# Altium footprint library ESP32.PcbLib: 11 footprints
Each footprint in its own frame and in the unit in brackets; x right, y up, seen from the top. Pads: shape width x height; smd on the part's side, far side on the other; paste and mask are expansions set on the pad; w line width, h text height; cw(c..) or ccw(c..) is an arc to the next point about the centre after c.
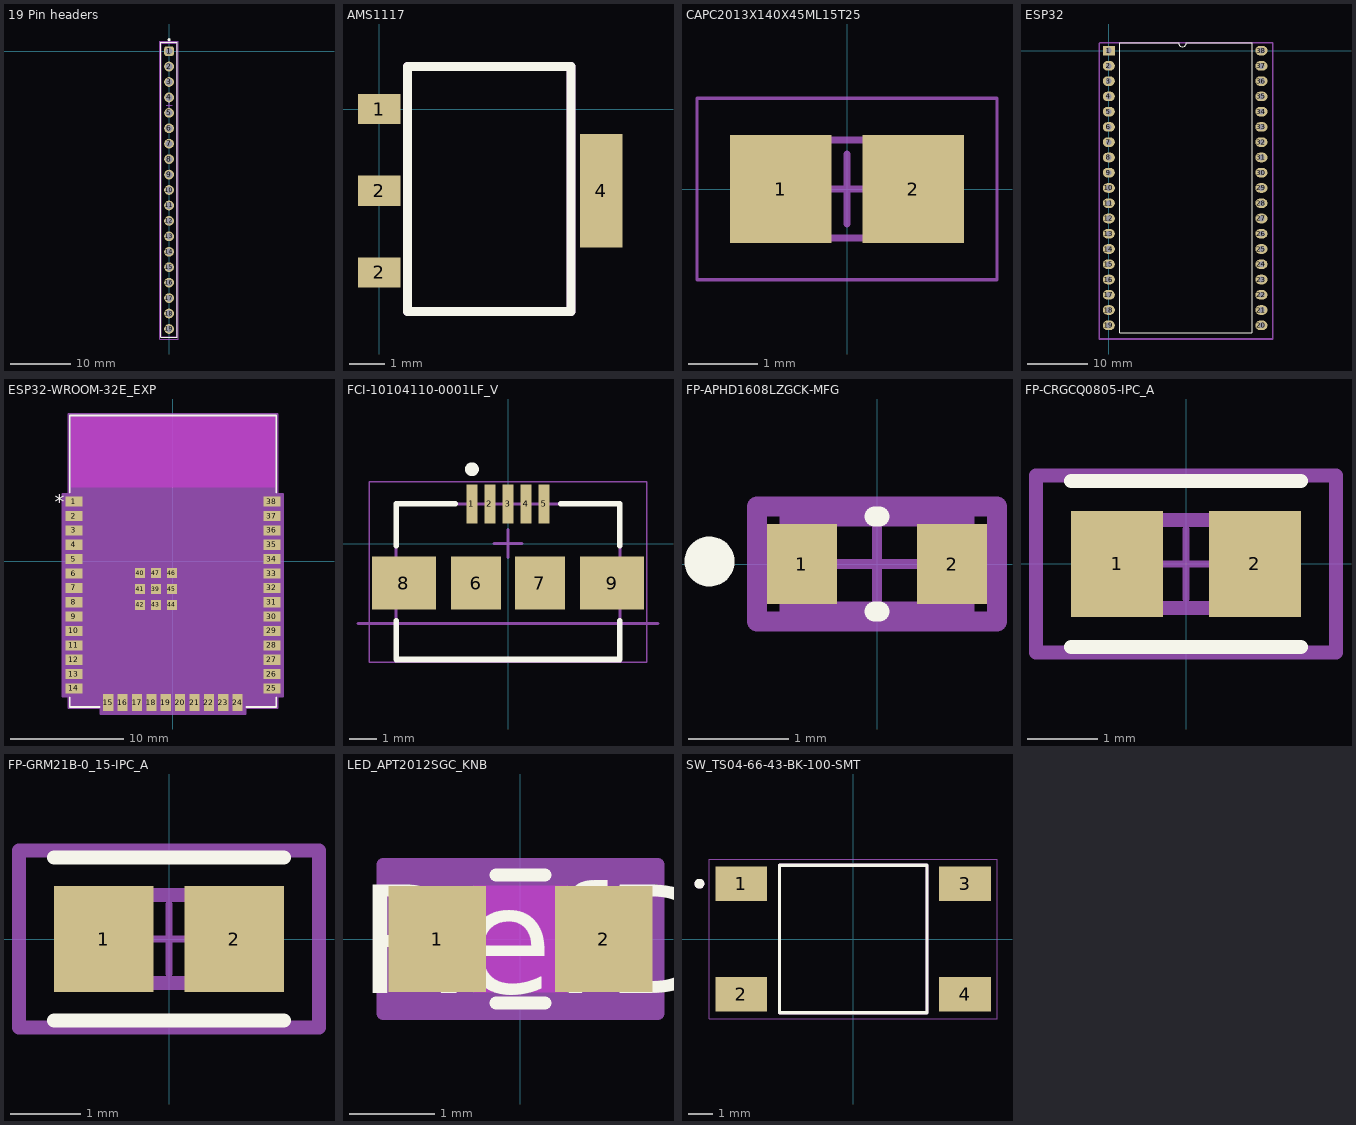
[diagram p0: the footprints below, top view; thin cyan lines are the x and y axes]

## 19 Pin headers [mm]
pads (19):
  rrect50% 1.6x1.6 hole 1.1: 1(0,0)
  round 1.6 hole 1.1: 2(0,-2.54) 3(0,-5.08) 4(0,-7.62) 5(0,-10.16) 6(0,-12.7) 7(0,-15.24) 8(0,-17.78) 9(0,-20.32) 10(0,-22.86) 11(0,-25.4) 12(0,-27.94) 13(0,-30.48) 14(0,-33.02) 15(0,-35.56) 16(0,-38.1) 17(0,-40.64) 18(0,-43.18) 19(0,-45.72)
Top Overlay:
  circle w0.25: c0,1.87 r0.125
  lines w0.2: -1.345,-47.117 1.345,-47.117 1.345,1.42 -1.345,1.42 -1.345,-47.117
Top Designator:
  text ".Designator" at 0.5,-27.818 h1.5
Top Component Outline:
  lines w0.1: -1.27,-46.99 1.27,-46.99 1.27,1.27 -1.27,1.27 -1.27,-46.99
Top Courtyard:
  lines w0.05: -1.566,-47.371 1.524,-47.371 ; -1.545,-47.371 -1.545,1.62 1.545,1.62 1.545,-47.371
Top Component Center:
  lines w0.05: -0.5,-8.89 0.5,-8.89 ; 0,-9.39 0,-8.39

## AMS1117 [mm]
pads (4):
  rect 1.2x0.85 smd: 1(0,0) 2(0,-4.6) 2(0,-2.3)
  rect 1.2x3.2 smd: 4(6.25,-2.3)
Top Overlay:
  lines w0.254: 0.8,-5.7 0.8,1.2 5.4,1.2 5.4,-5.7 0.8,-5.7
Top Assembly:
  lines w0.254: 0.8,-5.7 0.8,1.2 5.4,1.2 5.4,-5.7 0.8,-5.7
  text ".Designator" at -1.406,-2.752 h2
3D body "IC_Advanced_Monolithic_Systems_ams1117_eec.STEP": height 0.25, standoff 0, extent -1.147,-5.803 7.347,1.202

## CAPC2013X140X45ML15T25 [mm] "Chip Capacitor, 2-Leads, Body 2.00x1.25mm, IPC Low Density"
height 1.4
pads (2):
  rect 1.45x1.55 smd: 1(-0.95,0) 2(0.95,0)
Top Assembly:
  text ".Designator" at -2.253,-0.226 h1
Top 3D Body:
  lines w0.1: -1.075,-0.7 1.075,-0.7 1.075,0.7 -1.075,0.7 -1.075,-0.7
Top Courtyard:
  lines w0.05: -2.15,-1.3 2.15,-1.3 2.15,1.3 -2.15,1.3 -2.15,-1.3
  lines w0.1: -0.5,0 0.5,0 ; 0,-0.5 0,0.5
3D body: height 1.4, standoff 0, extent 0.625,-0.7 1.075,0.7
3D body: height 1.4, standoff 0, extent -1.075,-0.7 -0.625,0.7
3D body: height 1.4, standoff 0, extent -0.625,-0.7 0.625,0.7

## ESP32 [mm]
pads (38):
  rect 2x1.6 hole 0.965: 1(0,0)
  oval 2x1.6 hole 0.965: 2(0,-2.54) 3(0,-5.08) 4(0,-7.62) 5(0,-10.16) 6(0,-12.7) 7(0,-15.24) 8(0,-17.78) 9(0,-20.32) 10(0,-22.86) 11(0,-25.4) 12(0,-27.94) 13(0,-30.48) 14(0,-33.02) 15(0,-35.56) 16(0,-38.1) 17(0,-40.64) 18(0,-43.18) 19(0,-45.72) 20(25.4,-45.72) 21(25.4,-43.18) 22(25.4,-40.64) 23(25.4,-38.1) 24(25.4,-35.56) 25(25.4,-33.02) 26(25.4,-30.48) 27(25.4,-27.94) 28(25.4,-25.4) 29(25.4,-22.86) 30(25.4,-20.32) 31(25.4,-17.78) 32(25.4,-15.24) 33(25.4,-12.7) 34(25.4,-10.16) 35(25.4,-7.62) 36(25.4,-5.08) 37(25.4,-2.54) 38(25.4,0)
Top Overlay:
  lines w0.2: 11.6,1.27 1.835,1.27 1.835,-46.99 23.8,-46.99 23.8,1.27 12.9,1.27 ; 11.63,1.3 ccw(c12.265,1.3) 12.9,1.3
Top Assembly:
  lines w0.254: -1.6,1.2 -1.6,-48 27.3,-48 27.3,1.3 -1.5,1.3
  text ".Designator" at 4.282,-22.508 h1.52

## ESP32­WROOM­32E_EXP [mil]
pads (47):
  rect 59x35 smd paste+0 mask+0: 1(-344.5,207.1) 2(-344.5,157.1) 3(-344.5,107.1) 4(-344.5,57.1) 5(-344.5,7.1) 6(-344.5,-42.9) 7(-344.5,-92.9) 8(-344.5,-142.9) 9(-344.5,-192.9) 10(-344.5,-242.9) 11(-344.5,-292.9) 12(-344.5,-342.9) 13(-344.5,-392.9) 14(-344.5,-442.9) 25(344.5,-442.9) 26(344.5,-392.9) 27(344.5,-342.9) 28(344.5,-292.9) 29(344.5,-242.9) 30(344.5,-192.9) 31(344.5,-142.9) 32(344.5,-92.9) 33(344.5,-42.9) 34(344.5,7.1) 35(344.5,57.1) 36(344.5,107.1) 37(344.5,157.1) 38(344.5,207.1)
  rect 35x59 smd paste+0 mask+0: 15(-225,-492.15) 16(-175,-492.15) 17(-125,-492.15) 18(-75,-492.15) 19(-25,-492.15) 20(25,-492.15) 21(75,-492.15) 22(125,-492.15) 23(175,-492.15) 24(225,-492.15)
  rect 35x35 smd paste+0 mask+0: 39(-59.1,-96.9) 40(-114.2,-41.8) 41(-114.2,-96.9) 42(-114.2,-152) 43(-59.1,-152) 44(-4,-152) 45(-4,-96.9) 46(-4,-41.8) 47(-59.1,-41.8)
Top Overlay:
  lines w6: -359.5,-473.5 -359.5,-507 -255.6,-507 ; -359.5,237.7 -359.5,507 359.5,507 359.5,237.7 ; 255.6,-507 359.5,-507 359.5,-473.5
  text "*" at -411.5,182.1 h50
  text ".Designator" at -137.5,-25 h50
Keep-Out Layer:
  region: 354.5,258 354.5,502 -354.5,502 -354.5,258
Top 3D Body:
  lines w1: -354.5,-502 354.5,-502 354.5,502 -354.5,502 -354.5,-502
  text ".Designator" at -137.5,-25 h50
  text "*" at -302.5,182.1 h50
Top Courtyard:
  region: -364.5,-512 -252.5,-512 -252.5,-531.65 252.5,-531.65 252.5,-512 364.5,-512 364.5,-470.4 384,-470.4 384,234.6 364.5,234.6 364.5,512 -364.5,512 -364.5,234.6 -384,234.6 -384,-470.4 -364.5,-470.4
  lines w6: -384,-470.4 -384,234.6 -364.5,234.6 -364.5,512 364.5,512 364.5,234.6 384,234.6 384,-470.4 364.5,-470.4 364.5,-512 252.5,-512 252.5,-531.65 -252.5,-531.65 -252.5,-512 -364.5,-512 -364.5,-470.4 -384,-470.4

## FCI-10104110-0001LF_V [mm] "SMD, 5-Leads, Body 8.06x5.6mm, Pitch 0.65mm"
height 2.95
pads (9):
  rect 0.4x1.4 smd: 1(-1.3,1.425) 2(-0.65,1.425) 3(0,1.425) 4(0.65,1.425) 5(1.3,1.425)
  rect 1.8x1.9 smd: 6(-1.15,-1.425) 7(1.15,-1.425)
  rect 2.3x1.9 smd: 8(-3.75,-1.425) 9(3.75,-1.425)
Top Overlay:
  circle w0.25: c-1.3,2.675 r0.125
  lines w0.2: -4.03,-2.775 -4.03,-4.175 4.03,-4.175 4.03,-2.775 ; -4.03,-0.075 -4.03,1.425 -1.9,1.425 ; 1.9,1.425 4.03,1.425 4.03,-0.075
Mechanical 6:
  lines w0.1: -5.4,-2.875 5.4,-2.875
  text "PCB EDGE" at -8.128,-3.048 h0.3
Top 3D Body:
  lines w0.1: -4.03,-4.175 -4.03,1.425 4.03,1.425 4.03,-4.175 -4.03,-4.175
Top Courtyard:
  lines w0.05: -5,-4.275 -5,2.225 5,2.225 5,-4.275 -5,-4.275
  lines w0.1: -0.5,0 0.5,0 ; 0,-0.5 0,0.5
3D body: height 2.95, standoff 0, extent -4.03,-4.175 4.03,1.425

## FP-APHD1608LZGCK-MFG [mm]
pads (2):
  rect 0.7x0.8 smd paste+0 mask+0: 1(-0.75,0) 2(0.75,0)
Top Overlay:
  circle w0.25: c-1.675,0.025 r0.125
  lines w0.2: -0.025,-0.475 0.025,-0.475 ; -0.025,0.475 0.025,0.475
Top Assembly:
  lines w0.2: -1.2,-0.575 1.2,-0.575 1.2,0.575 -1.2,0.575 -1.2,-0.575
  text ".Designator" at 0,0 h1
Top 3D Body:
  lines w0.2: -0.875,-0.475 0.875,-0.475 0.875,0.475 -0.875,0.475 -0.875,-0.475
Top Courtyard:
  lines w0.2: -1.2,-0.575 1.2,-0.575 1.2,0.575 -1.2,0.575 -1.2,-0.575
Top Component Center:
  lines w0.1: -0.5,0 0.5,0 ; 0,-0.5 0,0.5
3D body "Diode_Kingbright_APHD1608LZGCK_eec.STEP": height 0.25, standoff 0, extent -1.2,-0.575 1.2,0.575

## FP-CRGCQ0805-IPC_A [mm]
pads (2):
  rect 1.306x1.51 smd paste+0 mask+0: 1(-0.976,0) 2(0.976,0)
Top Overlay:
  lines w0.2: -1.629,-1.18 1.629,-1.18 ; -1.629,1.18 1.629,1.18
Top Assembly:
  lines w0.2: -2.129,-1.255 -2.129,1.255 2.129,1.255 2.129,-1.255 -2.129,-1.255
  text ".Designator" at 0,0.189 h1
Top 3D Body:
  lines w0.2: -1,-0.625 -1,0.625 1,0.625 1,-0.625 -1,-0.625
Top Courtyard:
  lines w0.2: -2.129,-1.255 -2.129,1.255 2.129,1.255 2.129,-1.255 -2.129,-1.255
Top Component Center:
  lines w0.1: -0.5,0 0.5,0 ; 0,-0.5 0,0.5
3D body "Res_TE_Connectivity_CRGCQ0805F180R_eec.STEP": height 0.25, standoff 0, extent -2.129,-1.255 2.129,1.255

## FP-GRM21B-0_15-IPC_A [mm]
pads (2):
  rect 1.406x1.508 smd paste+0 mask+0: 1(-0.926,0) 2(0.926,0)
Top Overlay:
  lines w0.2: -1.629,-1.154 1.629,-1.154 ; -1.629,1.154 1.629,1.154
Top Assembly:
  lines w0.2: -2.129,-1.254 2.129,-1.254 2.129,1.254 -2.129,1.254 -2.129,-1.254
  text ".Designator" at 0,0.189 h1
Top 3D Body:
  lines w0.2: -1,-0.625 1,-0.625 1,0.625 -1,0.625 -1,-0.625
Top Courtyard:
  lines w0.2: -2.129,-1.254 2.129,-1.254 2.129,1.254 -2.129,1.254 -2.129,-1.254
Top Component Center:
  lines w0.1: -0.5,0 0.5,0 ; 0,-0.5 0,0.5
3D body "Cap_Murata_GRM21BC81C106KA73L_eec.STEP": height 0.25, standoff 0, extent -2.129,-1.254 2.129,1.254

## LED_APT2012SGC_KNB [mil]
pads (2):
  rect 45x49 smd paste+0 mask+0: 1(-38.5,0) 2(38.5,0)
Top Layer keep-out:
  region: -21.5,-22.5 -21.5,22.5 21.5,22.5 21.5,-22.5
Top Overlay:
  lines w6: -11.39,-29.5 11.39,-29.5 ; -11.39,29.5 11.39,29.5
  text "RefDes" at -75,-25 h50
Keep-Out Layer:
  region: -21.5,-24.5 -21.5,24.5 21.5,24.5 21.5,-24.5
Top 3D Body:
  lines w1: -39.5,-24.5 -39.5,24.5 ; -39.5,-24.5 -23.5,-24.5 -23.5,24.5 -39.5,24.5 ; -39.5,-24.5 39.5,-24.5 ; -39.5,-24.5 -39.5,24.5 ; -39.5,24.5 39.5,24.5 ; 39.5,-24.5 23.5,-24.5 23.5,24.5 39.5,24.5 ; 39.5,-24.5 39.5,24.5 ; 39.5,-24.5 39.5,24.5
  text "RefDes2" at -75,-25 h50
Top Courtyard:
  region: 63.5,-34.5 -63.5,-34.5 -63.5,34.5 63.5,34.5
  lines w6: -63.5,-34.5 -63.5,34.5 63.5,34.5 63.5,-34.5 -63.5,-34.5
3D body "LED_APT2012SGC_KNB.step": height 30, standoff 0, extent -39.49,-24.49 39.49,24.49

## SW_TS04-66-43-BK-100-SMT [mm]
pads (4):
  rect 2.1x1.4 smd: 1(-4.55,2.25) 2(-4.55,-2.25) 3(4.55,2.25) 4(4.55,-2.25)
Top Overlay:
  circle w0.2: c-6.25,2.25 r0.1
  lines w0.127: -3,-3 3,-3 3,3 -3,3 -3,-3
Top Assembly:
  text ".Designator" at -3.301,0.762 h1.52
Top 3D Body:
  circle w0.2: c-6.25,2.25 r0.1
  lines w0.127: -3,-3 3,-3 3,3 -3,3 -3,-3
Top Courtyard:
  lines w0.05: -5.85,-3.25 5.85,-3.25 5.85,3.25 -5.85,3.25 -5.85,-3.25
3D body "step_temp.STEP": height 4.3, standoff -0.1, extent -5,-3 5,3